# EAGLE library part IDC-2-16 (library onshore-tech)
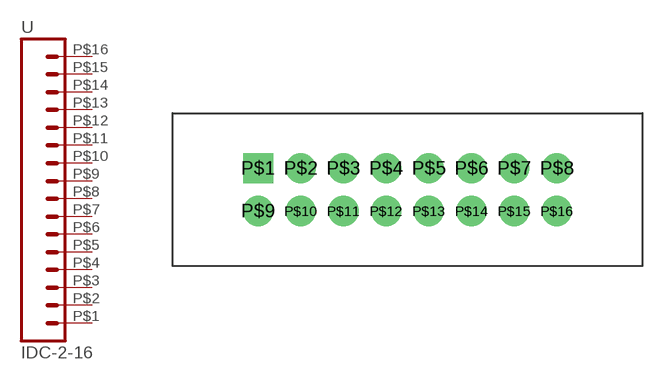
[diagram p0: symbol with the pads of IDC-2-16; footprint IDC-2-16]

Designator prefix -

## IDC-2-16  [IDC-2-16]
P$1  1  pas
P$2  2  pas
P$3  3  pas
P$4  4  pas
P$5  5  pas
P$6  6  pas
P$7  7  pas
P$8  8  pas
P$9  9  pas
P$10  10  pas
P$11  11  pas
P$12  12  pas
P$13  13  pas
P$14  14  pas
P$15  15  pas
P$16  16  pas

## Footprint IDC-2-16 (pad centres in mm)
drill 1.194 square: P$1 -8.89,1.27
drill 1.194: P$2 -6.35,1.27; P$3 -3.81,1.27; P$4 -1.27,1.27; P$5 1.27,1.27; P$6 3.81,1.27; P$7 6.35,1.27; P$8 8.89,1.27; P$9 -8.89,-1.27; P$10 -6.35,-1.27; P$11 -3.81,-1.27; P$12 -1.27,-1.27; P$13 1.27,-1.27; P$14 3.81,-1.27; P$15 6.35,-1.27; P$16 8.89,-1.27